# Altium footprint library glucometer_board_components.PcbLib: 3 footprints
Each footprint in its own frame and in the unit in brackets; x right, y up, seen from the top. Pads: shape width x height; smd on the part's side, far side on the other; paste and mask are expansions set on the pad; w line width, h text height; cw(c..) or ccw(c..) is an arc to the next point about the centre after c.
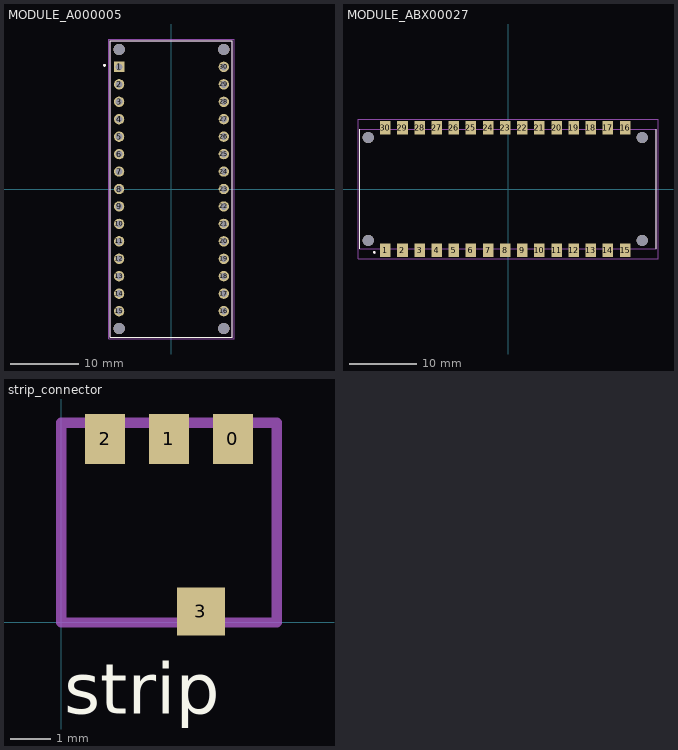
[diagram p0: the footprints below, top view; thin cyan lines are the x and y axes]

## MODULE_A000005 [mm]
pads (34):
  rect 1.508x1.508 hole 1: 1(-7.62,17.78)
  round 1.508 hole 1: 2(-7.62,15.24) 3(-7.62,12.7) 4(-7.62,10.16) 5(-7.62,7.62) 6(-7.62,5.08) 7(-7.62,2.54) 8(-7.62,0) 9(-7.62,-2.54) 10(-7.62,-5.08) 11(-7.62,-7.62) 12(-7.62,-10.16) 13(-7.62,-12.7) 14(-7.62,-15.24) 15(-7.62,-17.78) 16(7.62,-17.78) 17(7.62,-15.24) 18(7.62,-12.7) 19(7.62,-10.16) 20(7.62,-7.62) 21(7.62,-5.08) 22(7.62,-2.54) 23(7.62,0) 24(7.62,2.54) 25(7.62,5.08) 26(7.62,7.62) 27(7.62,10.16) 28(7.62,12.7) 29(7.62,15.24) 30(7.62,17.78)
  round 1.651 hole 1.651 unplated: ""(-7.62,-20.32) ""(-7.62,20.32) ""(7.62,-20.32) ""(7.62,20.32)
Top Overlay:
  circle w0.2: c-9.75,18 r0.1
  lines w0.127: -8.89,-21.59 -8.89,21.59 8.89,21.59 8.89,-21.59 -8.89,-21.59
Mechanical 13:
  circle w0.2: c-9.75,18 r0.1
  lines w0.127: -8.89,-21.59 8.89,-21.59 8.89,21.59 -8.89,21.59 -8.89,-21.59
Mechanical 15:
  lines w0.05: -9.14,-21.84 -9.14,21.84 9.14,21.84 9.14,-21.84 -9.14,-21.84

## MODULE_ABX00027 [mm]
pads (34):
  rect 1.56x2 smd: 1(-18.19,-9.1) 2(-15.65,-9.1) 3(-13.11,-9.1) 4(-10.57,-9.1) 5(-8.03,-9.1) 6(-5.49,-9.1) 7(-2.95,-9.1) 8(-0.41,-9.1) 9(2.13,-9.1) 10(4.67,-9.1) 11(7.21,-9.1) 12(9.75,-9.1) 13(12.29,-9.1) 14(14.83,-9.1) 15(17.37,-9.1) 16(17.37,9.1) 17(14.83,9.1) 18(12.29,9.1) 19(9.75,9.1) 20(7.21,9.1) 21(4.67,9.1) 22(2.13,9.1) 23(-0.41,9.1) 24(-2.95,9.1) 25(-5.49,9.1) 26(-8.03,9.1) 27(-10.57,9.1) 28(-13.11,9.1) 29(-15.65,9.1) 30(-18.19,9.1)
  round 1.651 hole 1.651 unplated: ""(-20.73,-7.62) ""(-20.73,7.62) ""(19.91,-7.62) ""(19.91,7.62)
Top Overlay:
  circle w0.2: c-19.83,-9.4 r0.1
  lines w0.127: -22,-8.89 -22,8.89 ; 22,-8.89 22,8.89
Mechanical 13:
  circle w0.2: c-19.83,-9.4 r0.1
  lines w0.127: -22,-8.89 -22,8.89 ; -22,-8.89 -22,8.89 ; -22,-8.89 22,-8.89 22,8.89 -22,8.89
Mechanical 15:
  lines w0.05: -22.25,-10.35 -22.25,10.35 22.25,10.35 22.25,-10.35 -22.25,-10.35

## strip_connector [mm]
pads (4):
  rect 1x1.25 smd: 0(4.3,4.594) 1(2.7,4.594) 2(1.1,4.594)
  rect 1.2x1.2 smd: 3(3.5,0.276)
Top Overlay:
  text "strip" at 0.076,-2.295 h1.27
Mechanical 1:
  lines w0.254: 0,0 5.4,0 5.4,5 0,5 0,0